# Altium schematic symbol library Breakout_boards.SchLib: 2 symbols
Pins are listed as number, name and electrical type; pins without a type are passive.

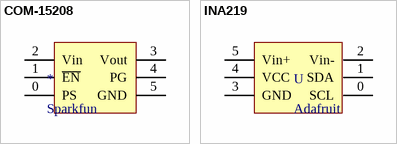
[diagram p0: symbols COM-15208 to INA219]

## COM-15208
designator *, comment Sparkfun
Buck-Boost Converter
pins: 0 PS, 1 ~{EN}, 2 Vin, 3 Vout, 4 PG, 5 GND

## INA219
designator U, comment Adafruit
Highside current sensor
pins: 0 SCL, 1 SDA, 2 Vin-, 3 GND, 4 VCC (power), 5 Vin+